# Altium schematic symbol library AOP.SchLib: 2 symbols
Pins are listed as number, name and electrical type; pins without a type are passive.

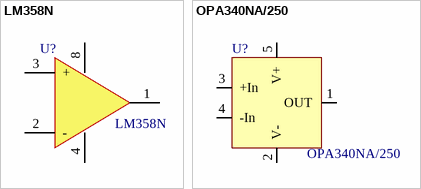
[diagram p0: symbols LM358N to OPA340NA/250]

## LM358N
designator U?
AMPLI OP DOUBLE 1MHZ 0.1V/US 8DIP; Manufacturer: FAIRCHILD SEMICONDUCTOR; Supplier 1: Farnell; Supplier Part Number 1: 2295980; Manufacturer Part Number: LM358N
footprint DIP_8
pins: 1, 2 -, 3 +, 4 (power), 8 (power)

## OPA340NA/250
designator U?
IC OP AMP GP 5.5MHZ RRIO SOT23-5; Manufacturer: Texas Instruments; Supplier 1: Farnell; Supplier Part Number 1: 1470372; ComponentLink1URL: http://www.ti.com/lit/ds/symlink/opa2340.pdf; ComponentLink1Description: Datasheet; Manufacturer Part Number: OPA340NA/250
footprint SOT95P245X145-5N (SOT23, 5-Leads, Body 2,90x2,45mm, Pitch 0,95mm, IPC Medium Density)
pins: 1 OUT, 2 V-, 3 +In, 4 -In, 5 V+